# EAGLE library part LMR16006Y-Q1 (library TSAR_Controller)
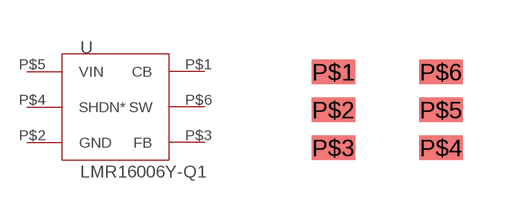
[diagram p1: symbol with the pads of SOT6; footprint SOT6]

Designator prefix -

## LMR16006Y-Q1  [SOT6]
P$1  CB
P$2  GND
P$3  FB
P$4  SHDN*
P$5  VIN
P$6  SW

## Footprint SOT6 (pad centres in mm)
smd 1.092 x 0.61: P$1 -1.346,0.95; P$2 -1.346,0; P$3 -1.346,-0.95; P$4 1.346,-0.95; P$5 1.346,0; P$6 1.346,0.95